# EAGLE library part 629722330214 (library WR-USB)
WR-USB Type C Connectors Characteristics Available in 24p (3.x), 16p (2.0) and 6p (Power Delivery only) Aligned with Power Delivery up to 240W High durability (10 000 cycles) UL, TID listing for USB standards Applications Mobile computing and smart devices High-performance industrial and medical systems Consumer electronics and multimedia hubs Smart buildings Details see: www.we-online.com/en/components/products/INPUT_OUTPUT_WR_USB_STANDARD Updated by Ella 2026-07-03 2026 (C) Würth Elektronik
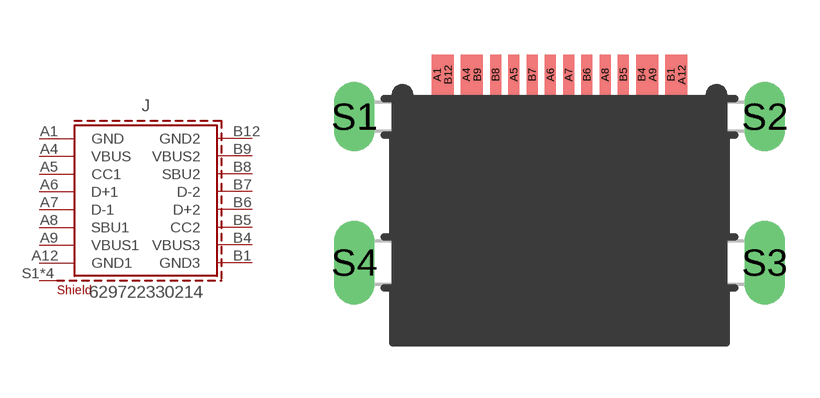
[diagram p0: symbol with the pads of 629722330214; footprint 629722330214]

Designator prefix J

## 629722330214 (APPLICATION: USB 2.0; DATASHEET: https://www.we-online.com/redexpert/spec/629722330214?ae; GERDER: Receptacle; INTERFACE-TYPE: Type C; IR: 5 A; MOUNT: SMT; PART-NUMBER: 629722330214; PCB-THICKNESS: 0.8 mm; PINS: 16pcs; TYPE: Horizontal; VALUE: 629722330214; WORKING-VOLTAGE: 48 V (DC))  [629722330214]
A1  GND  pas
A4  VBUS  pas
A5  CC1  pas
A6  D+1  pas
A7  D-1  pas
A8  SBU1  pas
A9  VBUS1  pas
A12  GND1  pas
B1  GND3  pas
B4  VBUS3  pas
B5  CC2  pas
B6  D+2  pas
B7  D-2  pas
B8  SBU2  pas
B9  VBUS2  pas
B12  GND2  pas
S1  SHIELD  pas
S2  SHIELD  pas
S3  SHIELD  pas
S4  SHIELD  pas

## Footprint 629722330214 (pad centres in mm)
WR-USB Type C Connectors USB 2.0, Type C, Horizontal SMT, 16Pins, PCB Thickness:0.8 mm
smd 0.3 x 1.1: A1 -3.35,5.15; A4 -2.55,5.15; A5 -1.25,5.15; A6 -0.25,5.15; A7 0.25,5.15; A8 1.25,5.15; A9 2.55,5.15; A12 3.35,5.15; B1 3.05,5.15; B4 2.25,5.15; B5 1.75,5.15; B6 0.75,5.15; B7 -0.75,5.15; B8 -1.75,5.15; B9 -2.25,5.15; B12 -3.05,5.15
drill 0.6 pad 1 slot 1.4 rotated 90: S1 -5.62,4; S2 5.62,4
drill 0.6 pad 1 slot 1.8 rotated 90: S3 5.62,0; S4 -5.62,0